# Altium schematic symbol library SCH - ARM CORTEX - STM STM32L071C(B-Z)Yx.SchLib: 1 symbol
Pins are listed as number, name and electrical type; pins without a type are passive.

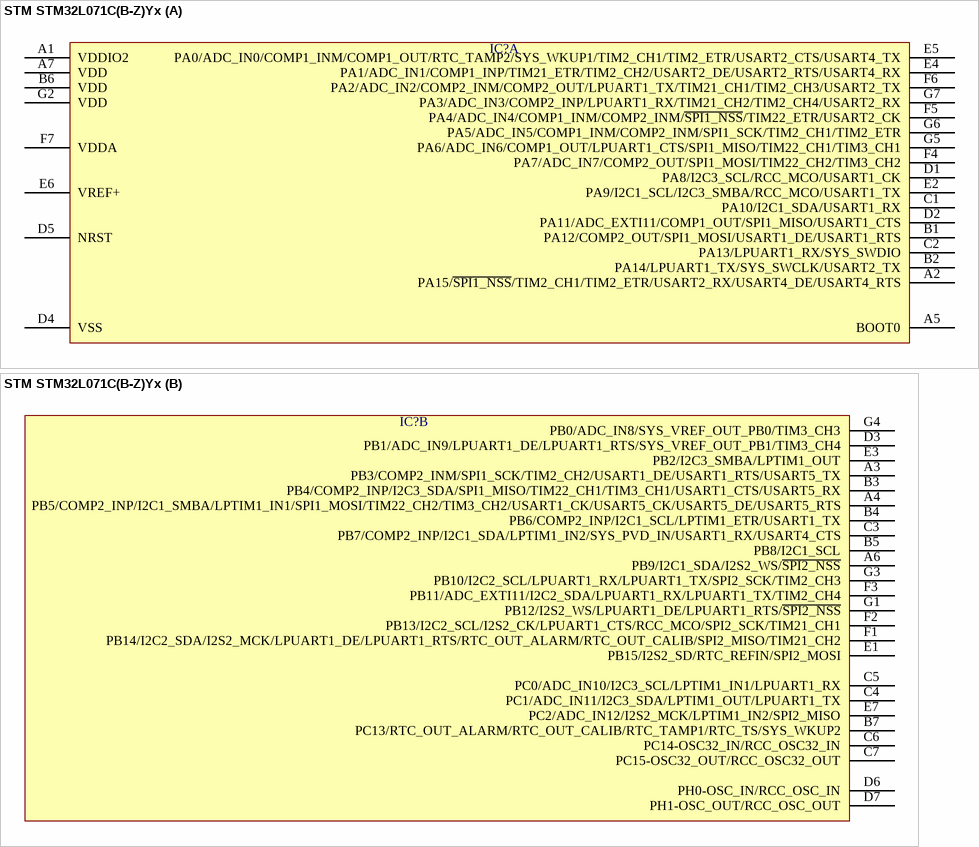
[diagram p0: symbol STM STM32L071C(B-Z)Yx]

## STM STM32L071C(B-Z)Yx
designator IC?  (value not drawn)
part A pins: A1 VDDIO2, A2 PA15/~{SPI1_NSS}/TIM2_CH1/TIM2_ETR/USART2_RX/USART4_DE/USART4_RTS, A5 BOOT0, A7 VDD, B1 PA12/COMP2_OUT/SPI1_MOSI/USART1_DE/USART1_RTS, B2 PA14/LPUART1_TX/SYS_SWCLK/USART2_TX, B6 VDD, C1 PA10/I2C1_SDA/USART1_RX, C2 PA13/LPUART1_RX/SYS_SWDIO, D1 PA8/I2C3_SCL/RCC_MCO/USART1_CK, D2 PA11/ADC_EXTI11/COMP1_OUT/SPI1_MISO/USART1_CTS, D4 VSS, D5 NRST, E2 PA9/I2C1_SCL/I2C3_SMBA/RCC_MCO/USART1_TX, E4 PA1/ADC_IN1/COMP1_INP/TIM21_ETR/TIM2_CH2/USART2_DE/USART2_RTS/USART4_RX, E5 PA0/ADC_IN0/COMP1_INM/COMP1_OUT/RTC_TAMP2/SYS_WKUP1/TIM2_CH1/TIM2_ETR/USART2_CTS/USART4_TX, E6 VREF+, F4 PA7/ADC_IN7/COMP2_OUT/SPI1_MOSI/TIM22_CH2/TIM3_CH2, F5 PA4/ADC_IN4/COMP1_INM/COMP2_INM/~{SPI1_NSS}/TIM22_ETR/USART2_CK, F6 PA2/ADC_IN2/COMP2_INM/COMP2_OUT/LPUART1_TX/TIM21_CH1/TIM2_CH3/USART2_TX, F7 VDDA, G2 VDD, G5 PA6/ADC_IN6/COMP1_OUT/LPUART1_CTS/SPI1_MISO/TIM22_CH1/TIM3_CH1, G6 PA5/ADC_IN5/COMP1_INM/COMP2_INM/SPI1_SCK/TIM2_CH1/TIM2_ETR, G7 PA3/ADC_IN3/COMP2_INP/LPUART1_RX/TIM21_CH2/TIM2_CH4/USART2_RX
part B pins: A3 PB3/COMP2_INM/SPI1_SCK/TIM2_CH2/USART1_DE/USART1_RTS/USART5_TX, A4 PB5/COMP2_INP/I2C1_SMBA/LPTIM1_IN1/SPI1_MOSI/TIM22_CH2/TIM3_CH2/USART1_CK/USART5_CK/USART5_DE/USART5_RTS, A6 PB9/I2C1_SDA/I2S2_WS/~{SPI2_NSS}, B3 PB4/COMP2_INP/I2C3_SDA/SPI1_MISO/TIM22_CH1/TIM3_CH1/USART1_CTS/USART5_RX, B4 PB6/COMP2_INP/I2C1_SCL/LPTIM1_ETR/USART1_TX, B5 PB8/I2C1_SCL, B7 PC13/RTC_OUT_ALARM/RTC_OUT_CALIB/RTC_TAMP1/RTC_TS/SYS_WKUP2, C3 PB7/COMP2_INP/I2C1_SDA/LPTIM1_IN2/SYS_PVD_IN/USART1_RX/USART4_CTS, C4 PC1/ADC_IN11/I2C3_SDA/LPTIM1_OUT/LPUART1_TX, C5 PC0/ADC_IN10/I2C3_SCL/LPTIM1_IN1/LPUART1_RX, C6 PC14-OSC32_IN/RCC_OSC32_IN, C7 PC15-OSC32_OUT/RCC_OSC32_OUT, D3 PB1/ADC_IN9/LPUART1_DE/LPUART1_RTS/SYS_VREF_OUT_PB1/TIM3_CH4, D6 PH0-OSC_IN/RCC_OSC_IN, D7 PH1-OSC_OUT/RCC_OSC_OUT, E1 PB15/I2S2_SD/RTC_REFIN/SPI2_MOSI, E3 PB2/I2C3_SMBA/LPTIM1_OUT, E7 PC2/ADC_IN12/I2S2_MCK/LPTIM1_IN2/SPI2_MISO, F1 PB14/I2C2_SDA/I2S2_MCK/LPUART1_DE/LPUART1_RTS/RTC_OUT_ALARM/RTC_OUT_CALIB/SPI2_MISO/TIM21_CH2, F2 PB13/I2C2_SCL/I2S2_CK/LPUART1_CTS/RCC_MCO/SPI2_SCK/TIM21_CH1, F3 PB11/ADC_EXTI11/I2C2_SDA/LPUART1_RX/LPUART1_TX/TIM2_CH4, G1 PB12/I2S2_WS/LPUART1_DE/LPUART1_RTS/~{SPI2_NSS}, G3 PB10/I2C2_SCL/LPUART1_RX/LPUART1_TX/SPI2_SCK/TIM2_CH3, G4 PB0/ADC_IN8/SYS_VREF_OUT_PB0/TIM3_CH3